# Altium schematic symbol library PCB_Project.SCHLIB: 17 symbols
Pins are listed as number, name and electrical type; pins without a type are passive.

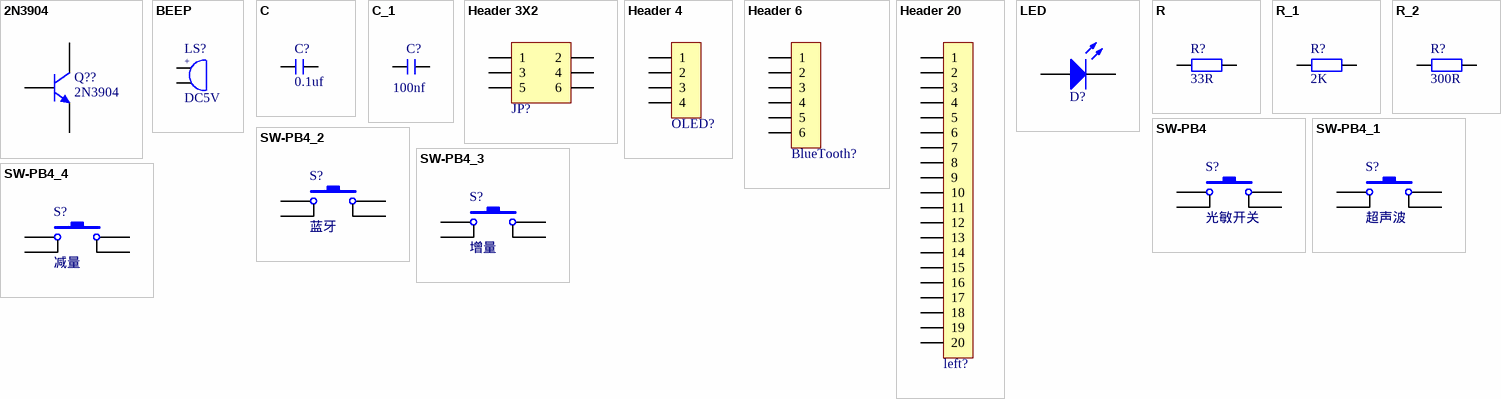
[diagram p0: symbols 2N3904 to SW-PB4_4]

## 2N3904
designator Q??
NPN General Purpose Amplifier; Published: 8-Jun-2000; LatestRevisionDate: 15-Jan-2003; LatestRevisionNote: PCB Footprint 'BCY-W3/D4.7' replaced; DatasheetVersion: 1997; PackageVersion: Sep-1998; PackageReference: TO-92A; Publisher: Altium Limited; PackageDescription: TO, Flat Index; 3 In-Line, Axial Leads; Body Dia. 4.5mm; Leads 0.51 x 0.48 mm (max); ComponentLink1Description: Manufacturer Link; ComponentLink1URL: http://www.fairchildsemi.com/; ComponentLink2Description: Datasheet; ComponentLink2URL: http://www.fairchildsemi.com/ds/2N%2F2N3904.pdf
footprint TO-92A (TO, Flat Index; 3 In-Line, Axial Leads; Body Dia. 4.5mm; Leads 0.51 x 0.48 mm (max))
simulation model 2N3904 (NPN)
signal-integrity model 2N3904
pins: 1 E, 2 B, 3 C

## BEEP
designator LS?, comment DC5V
蜂鸣器; 版权归属: 封装库来自淘宝 ID：黄晶宝石; BOM名称: 蜂鸣器; 技术支持，联系售后: https://shop463601444.taobao.com
footprint BEEP 6.5x12x6 (6.5*12*6mm(脚距,直径,高度))
footprint BEEP 5x9x5.5 (5*9*5.5mm(脚距,直径,高度))
footprint BEEP 6.5x12x8.5 (6.5*12*8.5mm(脚距,直径,高度))
footprint BEEP 7.6X12X7.5 (6.5*12*7.5mm(脚距,直径,高度))
footprint BEEP 7.6X12X9.5 (6.5*12*9.5mm(脚距,直径,高度))
pins: 1, 2
text: +

## C
designator C?, comment 0.1uf
贴片电容; BOM名称: 无极性贴片电容; 淘宝ID: 封装库来自淘宝 ID：黄晶宝石; 联系售后，技术支持: https://shop463601444.taobao.com; 唯一出售店铺网址: https://shop463601444.taobao.com
footprint C 0201_L (无极性贴片电容)
footprint C 0402_L (无极性贴片电容)
footprint C 0603_L (无极性贴片电容)
footprint C 0805_L (无极性贴片电容)
footprint C 1206_L (无极性贴片电容)
footprint C 1210_L (无极性贴片电容)
footprint C 1808_L (无极性贴片电容)
footprint C 1812_L (无极性贴片电容)
footprint C 1825_L (无极性贴片电容)
footprint C 2225_L (无极性贴片电容)
footprint C 0201_M (无极性贴片电容)
footprint C 0402_M (无极性贴片电容)
footprint C 0603_M (无极性贴片电容)
footprint C 0805_M (无极性贴片电容)
footprint C 1206_M (无极性贴片电容)
footprint C 1210_M (无极性贴片电容)
footprint C 1808_M (无极性贴片电容)
footprint C 1812_M (无极性贴片电容)
footprint C 1825_M (无极性贴片电容)
footprint C 2225_M (无极性贴片电容)
pins: 1, 2

## C_1
designator C?, comment 100nf
贴片电容; BOM名称: 无极性贴片电容; 淘宝ID: 封装库来自淘宝 ID：黄晶宝石; 联系售后，技术支持: https://shop463601444.taobao.com; 唯一出售店铺网址: https://shop463601444.taobao.com
footprint C 0201_L (无极性贴片电容)
footprint C 0402_L (无极性贴片电容)
footprint C 0603_L (无极性贴片电容)
footprint C 0805_L (无极性贴片电容)
footprint C 1206_L (无极性贴片电容)
footprint C 1210_L (无极性贴片电容)
footprint C 1808_L (无极性贴片电容)
footprint C 1812_L (无极性贴片电容)
footprint C 1825_L (无极性贴片电容)
footprint C 2225_L (无极性贴片电容)
footprint C 0201_M (无极性贴片电容)
footprint C 0402_M (无极性贴片电容)
footprint C 0603_M (无极性贴片电容)
footprint C 0805_M (无极性贴片电容)
footprint C 1206_M (无极性贴片电容)
footprint C 1210_M (无极性贴片电容)
footprint C 1808_M (无极性贴片电容)
footprint C 1812_M (无极性贴片电容)
footprint C 1825_M (无极性贴片电容)
footprint C 2225_M (无极性贴片电容)
pins: 1, 2

## Header 3X2
designator JP?, comment Header3X2  (value not drawn)
3*2P接插件; 版权归属: 封装库来自淘宝 ID：黄晶宝石; BOM名称: 3*2P接插件; 学习资源: https://shop463601444.taobao.com
footprint IDC2.54-LI-2x3P (6P简易牛角座)
footprint HDR2.54-LI-2x3P (双排排针，3x2脚)
footprint HDR2.54-M-LS-2x3P (脚距：2.54mm，贴片双排母)
footprint HDR2.54-WI-2x3P (双排弯脚排针，3x2脚)
pins: 1, 2, 3, 4, 5, 6

## Header 4
designator OLED?, comment HDR-1X4  (value not drawn)
4P接插件; 版权归属: 封装库来自淘宝 ID：黄晶宝石; BOM名称: 4P接插件; 学习资源: https://shop463601444.taobao.com
footprint XH2.54-WI-4P (接插件，4P)
footprint XH2.54-LI-4P (接插件，4P)
footprint HDR2.54-LI-4P (排针，4脚)
footprint HDR2.54-M-LI-4P (排母，4脚)
footprint HDR2.54-WI-4P (弯脚排针，4脚)
footprint HDR2.54-WS-4P (4P卧式贴片排针2.54)
footprint HDR2.54-Y-LI-4P (圆孔排母，4脚)
footprint HDR2.54-M-WS-4P (4P卧式贴片排母2.54)
footprint KF2510-LI-4P (接插件/2A)
footprint XH2.54-WS-4P (长：15mm，宽：8mm，高：6.1mm)
footprint XH2.54-LS-4P (长：15mm，宽：6mm，高：8.3mm)
footprint KF2EDGK-2.54-LI-4P (长：12.06mm，宽：8.1mm，高：10.1mm)
footprint KF2EDGK-2.54-WI-4P (长：12.06mm，宽：10.1mm，高：8.1mm)
pins: 1, 2, 3, 4

## Header 6
designator BlueTooth?, comment HDR-1X6  (value not drawn)
6P接插件; 版权归属: 封装库来自淘宝 ID：黄晶宝石; BOM名称: 6P接插件; 学习资源: https://shop463601444.taobao.com
footprint XH2.54-WI-6P (接插件，6P)
footprint XH2.54-LI-6P (接插件，6P)
footprint HDR2.54-LI-6P (排针，6脚)
footprint HDR2.54-M-LI-6P (排母，6脚)
footprint HDR2.54-WI-6P (弯脚排针，6脚)
footprint HDR2.54-WS-6P (6P卧式贴片排针2.54)
footprint HDR2.54-Y-LI-6P (圆孔排母，6脚)
footprint HDR2.54-M-WS-6P (6P卧式贴片排母2.54)
footprint KF2510-LI-6P (接插件/2A)
footprint XH2.54-WS-6P (长：20mm，宽：8mm，高：6.1mm)
footprint XH2.54-LS-6P (长：20mm，宽：6mm，高：8.3mm)
footprint KF2EDGK-2.54-LI-6P (长：17.1mm，宽：8.1mm，高：10.1mm)
footprint KF2EDGK-2.54-WI-6P (长：17.1mm，宽：10.1mm，高：8.1mm)
pins: 1, 2, 3, 4, 5, 6

## Header 20
designator left?, comment HDR-1X20  (value not drawn)
20P接插件; 版权归属: 封装库来自淘宝 ID：黄晶宝石; BOM名称: 20P接插件; 学习资源: https://shop463601444.taobao.com
footprint HDR2.54-LI-20P (排针，20脚)
footprint HDR2.54-M-LI-20P (排母，20脚)
footprint HDR2.54-WI-20P (弯脚排针，20脚)
footprint HDR2.54-WS-20P (20P卧式贴片排针2.54)
footprint HDR2.54-Y-LI-20P (圆孔排母，20脚)
footprint HDR2.54-M-WS-20P (20P卧式贴片排母2.54)
pins: 1, 2, 3, 4, 5, 6, 7, 8, 9, 10, 11, 12, 13, 14, 15, 16, 17, 18, 19, 20

## LED
designator D?  (value not drawn)
发光二极管; 技术支持，联系售后: https://shop463601444.taobao.com
footprint LED_A1 (直径3MM发?)
footprint LED_A2 (直径3MM?)
pins: 1 A, 2 K

## R
designator R?, comment 33R
贴片电阻; 版权归属: 来自淘宝 ID：黄晶宝石; 封装库来自淘宝卖家 ID：黄晶宝石: 其他店铺购入均为盗版，不享受售后技术支持服务，请立即申请退款; BOM名称: 贴片电阻; 联系售后: https://shop463601444.taobao.com
footprint R 0201_L (1/20W贴片电阻)
footprint R 0402_L (1/16W贴片电阻)
footprint R 0603_L (1/10W贴片电阻)
footprint R 0805_L (1/8W贴片电阻)
footprint R 1206_L (1/4W贴片电阻)
footprint R 1210_L (1/3W贴片电阻)
footprint R 1812_L (1/2W贴片电阻)
footprint R 2010_L (3/4W贴片电阻)
footprint R 2512_L (1W贴片电阻)
footprint R 0201_M (1/20W贴片电阻)
footprint R 0402_M (1/16W贴片电阻)
footprint R 0603_M (1/10W贴片电阻)
footprint R 0805_M (1/8W贴片电阻)
footprint R 1206_M (1/4W贴片电阻)
footprint R 1210_M (1/3W贴片电阻)
footprint R 1812_M (1/2W贴片电阻)
footprint R 2010_M (3/4W贴片电阻)
footprint R 2512_M (1W贴片电阻)
pins: 1, 2

## R_1
designator R?, comment 2K
贴片电阻; 版权归属: 来自淘宝 ID：黄晶宝石; 封装库来自淘宝卖家 ID：黄晶宝石: 其他店铺购入均为盗版，不享受售后技术支持服务，请立即申请退款; BOM名称: 贴片电阻; 联系售后: https://shop463601444.taobao.com
footprint R 0201_L (1/20W贴片电阻)
footprint R 0402_L (1/16W贴片电阻)
footprint R 0603_L (1/10W贴片电阻)
footprint R 0805_L (1/8W贴片电阻)
footprint R 1206_L (1/4W贴片电阻)
footprint R 1210_L (1/3W贴片电阻)
footprint R 1812_L (1/2W贴片电阻)
footprint R 2010_L (3/4W贴片电阻)
footprint R 2512_L (1W贴片电阻)
footprint R 0201_M (1/20W贴片电阻)
footprint R 0402_M (1/16W贴片电阻)
footprint R 0603_M (1/10W贴片电阻)
footprint R 0805_M (1/8W贴片电阻)
footprint R 1206_M (1/4W贴片电阻)
footprint R 1210_M (1/3W贴片电阻)
footprint R 1812_M (1/2W贴片电阻)
footprint R 2010_M (3/4W贴片电阻)
footprint R 2512_M (1W贴片电阻)
pins: 1, 2

## R_2
designator R?, comment 300R
贴片电阻; 版权归属: 来自淘宝 ID：黄晶宝石; 封装库来自淘宝卖家 ID：黄晶宝石: 其他店铺购入均为盗版，不享受售后技术支持服务，请立即申请退款; BOM名称: 贴片电阻; 联系售后: https://shop463601444.taobao.com
footprint R 0201_L (1/20W贴片电阻)
footprint R 0402_L (1/16W贴片电阻)
footprint R 0603_L (1/10W贴片电阻)
footprint R 0805_L (1/8W贴片电阻)
footprint R 1206_L (1/4W贴片电阻)
footprint R 1210_L (1/3W贴片电阻)
footprint R 1812_L (1/2W贴片电阻)
footprint R 2010_L (3/4W贴片电阻)
footprint R 2512_L (1W贴片电阻)
footprint R 0201_M (1/20W贴片电阻)
footprint R 0402_M (1/16W贴片电阻)
footprint R 0603_M (1/10W贴片电阻)
footprint R 0805_M (1/8W贴片电阻)
footprint R 1206_M (1/4W贴片电阻)
footprint R 1210_M (1/3W贴片电阻)
footprint R 1812_M (1/2W贴片电阻)
footprint R 2010_M (3/4W贴片电阻)
footprint R 2512_M (1W贴片电阻)
pins: 1, 2

## SW-PB4
designator S?, comment 光敏开关
微动开关; Published: 24-Mar-1999; LatestRevisionDate: 17-Jul-2002; LatestRevisionNote: Re-released for DXP Platform.; PackageReference: SPST-2; Publisher: Altium Limited
footprint SW_PB4_A1
pins: 1, 2, 3, 4

## SW-PB4_1
designator S?, comment 超声波
微动开关; Published: 24-Mar-1999; LatestRevisionDate: 17-Jul-2002; LatestRevisionNote: Re-released for DXP Platform.; PackageReference: SPST-2; Publisher: Altium Limited
footprint SW_PB4_A1
pins: 1, 2, 3, 4

## SW-PB4_2
designator S?, comment 蓝牙
微动开关; Published: 24-Mar-1999; LatestRevisionDate: 17-Jul-2002; LatestRevisionNote: Re-released for DXP Platform.; PackageReference: SPST-2; Publisher: Altium Limited
footprint SW_PB4_A1
pins: 1, 2, 3, 4

## SW-PB4_3
designator S?, comment 增量
微动开关; Published: 24-Mar-1999; LatestRevisionDate: 17-Jul-2002; LatestRevisionNote: Re-released for DXP Platform.; PackageReference: SPST-2; Publisher: Altium Limited
footprint SW_PB4_A1
pins: 1, 2, 3, 4

## SW-PB4_4
designator S?, comment 减量
微动开关; Published: 24-Mar-1999; LatestRevisionDate: 17-Jul-2002; LatestRevisionNote: Re-released for DXP Platform.; PackageReference: SPST-2; Publisher: Altium Limited
footprint SW_PB4_A1
pins: 1, 2, 3, 4